# Altium footprint library CapacitorSMD0603.PcbLib: 1 footprints
Each footprint in its own frame and in the unit in brackets; x right, y up, seen from the top. Pads: shape width x height; smd on the part's side, far side on the other; paste and mask are expansions set on the pad; w line width, h text height; cw(c..) or ccw(c..) is an arc to the next point about the centre after c.
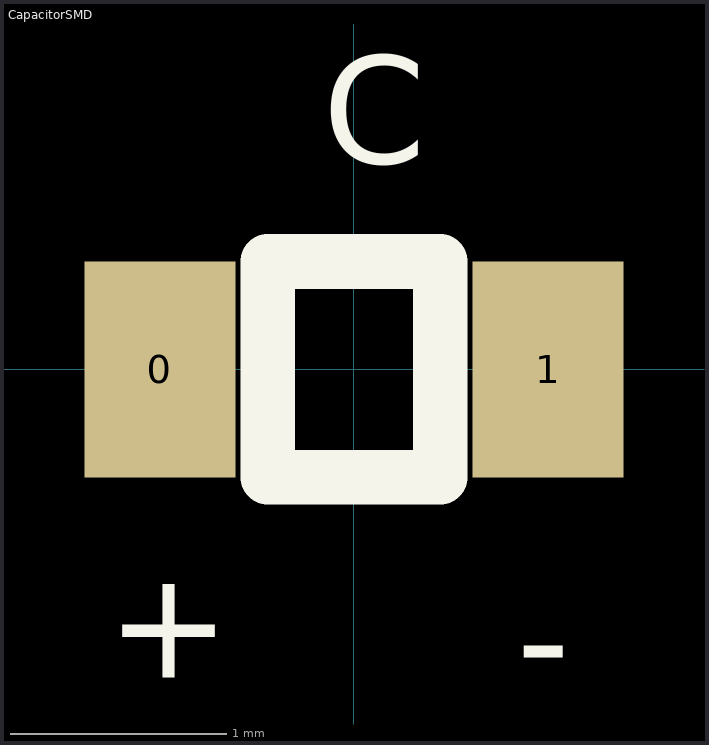
[diagram p0: the footprint, top view; thin cyan lines are the x and y axes]

## CapacitorSMD [mm]
pads (2):
  rect 0.7x1 smd: 0(-0.9,0) 1(0.9,0)
Top Overlay:
  lines w0.254: -0.4,-0.5 0.4,-0.5 0.4,0.5 -0.4,0.5 -0.4,-0.5
  text "+" at -1.146,-1.429 h0.5
  text "-" at 0.754,-1.496 h0.5
  text "C" at -0.146,0.954 h0.5